# Altium footprint library FH101.PcbLib: 1 footprints
Each footprint in its own frame and in the unit in brackets; x right, y up, seen from the top. Pads: shape width x height; smd on the part's side, far side on the other; paste and mask are expansions set on the pad; w line width, h text height; cw(c..) or ccw(c..) is an arc to the next point about the centre after c.
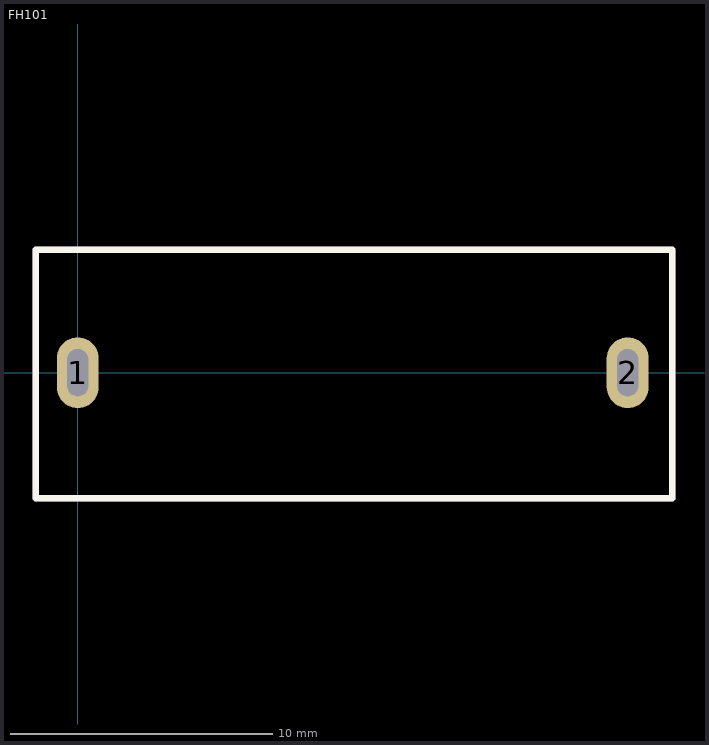
[diagram p0: the footprint, top view; thin cyan lines are the x and y axes]

## FH101 [mm]
pads (2):
  oval 1.6x2.7 hole 0.8 slot 1.8 at 90 deg: 1(0,0) 2(21,0)
Top Overlay:
  lines w0.254: -1.6,-4.8 -1.6,4.7 22.7,4.7 22.7,-4.8 -1.6,-4.8
TopAssy:
  lines w0.254: -1.6,-4.8 -1.6,4.7 22.7,4.7 22.7,-4.8 -1.6,-4.8
3D body "User Library-Fuse_Holder_FH-101-1.STEP": height 11.2, standoff -3.8, extent -1.616,-4.86 22.684,4.74